# Altium schematic symbol library LED.SchLib: 1 symbol
Pins are listed as number, name and electrical type; pins without a type are passive.

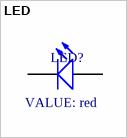
[diagram p0: symbol LED]

## LED
designator LED?, comment red
VALUE 2: 1206; VALUE: red
footprint 1206
footprint 3mm
footprint 5MM
footprint Right_5mm
footprint 1210
footprint 5730
pins: 1 K, 2 A